# Altium footprint library 691 357 310 0xx B.PcbLib: 6 footprints
Each footprint in its own frame and in the unit in brackets; x right, y up, seen from the top. Pads: shape width x height; smd on the part's side, far side on the other; paste and mask are expansions set on the pad; w line width, h text height; cw(c..) or ccw(c..) is an arc to the next point about the centre after c.
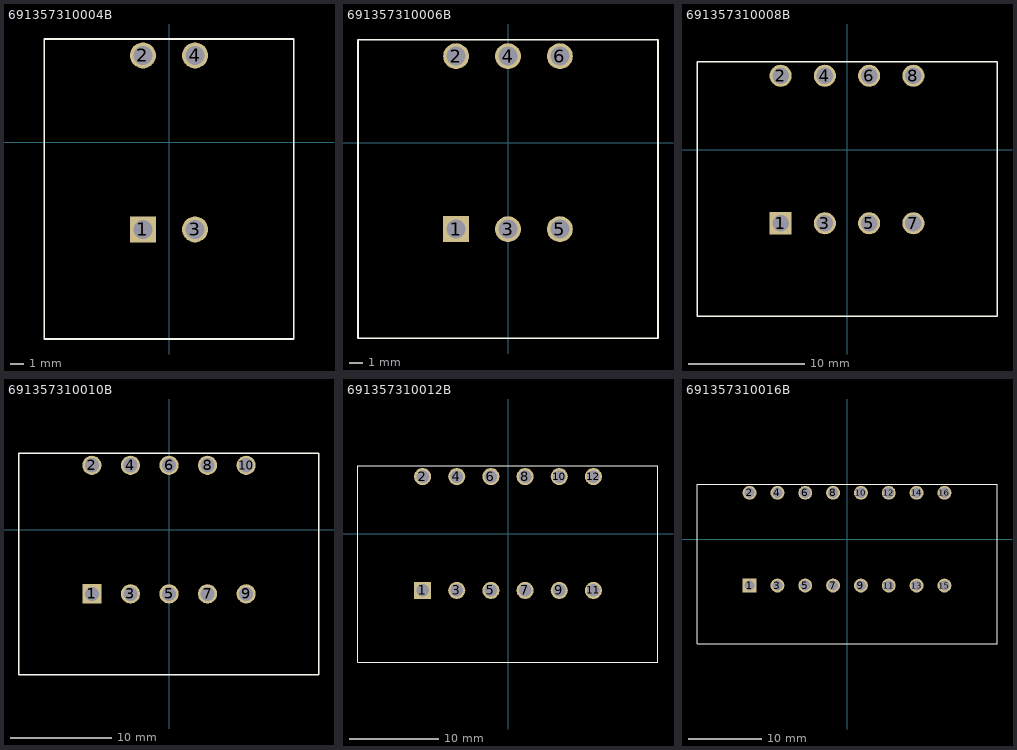
[diagram p0: the footprints below, top view; thin cyan lines are the x and y axes]

## 691357310004B [mm] "3,81mm - PCB - Double level - Horizontal - with flanges - 04p"
height 22.4
pads (4):
  rect 1.9x1.9 hole 1.4: 1(-1.905,-6.35)
  round 1.9 hole 1.4: 2(-1.905,6.35) 3(1.905,-6.35) 4(1.905,6.35)
Top Overlay:
  lines w0.127: -9.105,-14.35 -9.105,7.55 9.105,7.55 9.105,-14.35 -9.105,-14.35
3D body: height 22.41, standoff -3.39, extent -9.105,-14.35 9.105,7.55

## 691357310006B [mm] "3,81mm - PCB - Double level - Horizontal - with flanges - 06p"
height 22.4
pads (6):
  rect 1.9x1.9 hole 1.4: 1(-3.81,-6.35)
  round 1.9 hole 1.4: 2(-3.81,6.35) 3(0,-6.35) 4(0,6.35) 5(3.81,-6.35) 6(3.81,6.35)
Top Overlay:
  lines w0.127: -11.01,-14.35 11.01,-14.35 11.01,7.55 -11.01,7.55 -11.01,-14.35
3D body: height 22.41, standoff -3.39, extent -11.01,-14.35 11.01,7.55

## 691357310008B [mm] "3,81mm - PCB - Double level - Horizontal - with flanges - 08p"
height 22.4
pads (8):
  rect 1.9x1.9 hole 1.4: 1(-5.715,-6.35)
  round 1.9 hole 1.4: 2(-5.715,6.35) 3(-1.905,-6.35) 4(-1.905,6.35) 5(1.905,-6.35) 6(1.905,6.35) 7(5.715,-6.35) 8(5.715,6.35)
Top Overlay:
  lines w0.127: -12.915,-14.35 12.915,-14.35 12.915,7.55 -12.915,7.55 -12.915,-14.35
3D body: height 22.41, standoff -3.39, extent -12.915,-14.35 12.915,7.55

## 691357310010B [mm] "3,81mm - PCB - Double level - Horizontal - with flanges - 10p"
height 22.4
pads (10):
  rect 1.9x1.9 hole 1.4: 1(-7.62,-6.35)
  round 1.9 hole 1.4: 2(-7.62,6.35) 3(-3.81,-6.35) 4(-3.81,6.35) 5(0,-6.35) 6(0,6.35) 7(3.81,-6.35) 8(3.81,6.35) 9(7.62,-6.35) 10(7.62,6.35)
Top Overlay:
  lines w0.127: -14.82,-14.35 14.82,-14.35 14.82,7.55 -14.82,7.55 -14.82,-14.35
3D body: height 22.41, standoff -3.39, extent -14.82,-14.35 14.82,7.55

## 691357310012B [mm] "3,81mm - PCB - Double level - Horizontal - with flanges - 12p"
height 22.4
pads (12):
  rect 1.9x1.9 hole 1.4: 1(-9.525,-6.35)
  round 1.9 hole 1.4: 2(-9.525,6.35) 3(-5.715,-6.35) 4(-5.715,6.35) 5(-1.905,-6.35) 6(-1.905,6.35) 7(1.905,-6.35) 8(1.905,6.35) 9(5.715,-6.35) 10(5.715,6.35) 11(9.525,-6.35) 12(9.525,6.35)
Top Overlay:
  lines w0.127: -16.725,-14.35 16.725,-14.35 16.725,7.55 -16.725,7.55 -16.725,-14.35
3D body: height 22.41, standoff -3.39, extent -16.725,-14.28 16.725,7.62

## 691357310016B [mm] "3,81mm - PCB - Double level - Horizontal - with flanges - 16p"
height 22.4
pads (16):
  rect 1.9x1.9 hole 1.4: 1(-13.335,-6.35)
  round 1.9 hole 1.4: 2(-13.335,6.35) 3(-9.525,-6.35) 4(-9.525,6.35) 5(-5.715,-6.35) 6(-5.715,6.35) 7(-1.905,-6.35) 8(-1.905,6.35) 9(1.905,-6.35) 10(1.905,6.35) 11(5.715,-6.35) 12(5.715,6.35) 13(9.525,-6.35) 14(9.525,6.35) 15(13.335,-6.35) 16(13.335,6.35)
Top Overlay:
  lines w0.127: -20.535,-14.35 20.535,-14.35 20.535,7.55 -20.535,7.55 -20.535,-14.35
3D body: height 22.41, standoff -3.39, extent -20.535,-14.35 20.535,7.55